# Altium footprint library LED_3MM_BICOLOR_RT_123.PcbLib: 1 footprints
Each footprint in its own frame and in the unit in brackets; x right, y up, seen from the top. Pads: shape width x height; smd on the part's side, far side on the other; paste and mask are expansions set on the pad; w line width, h text height; cw(c..) or ccw(c..) is an arc to the next point about the centre after c.
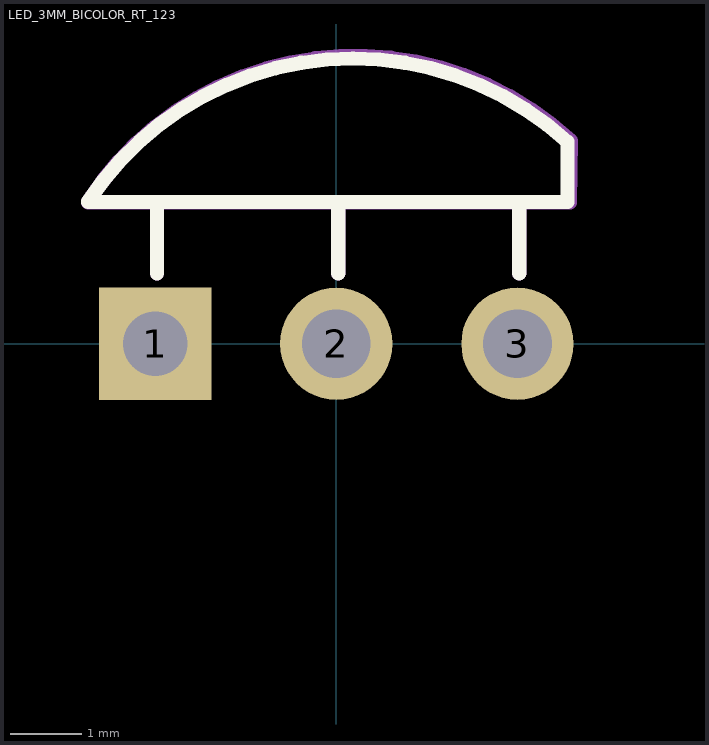
[diagram p0: the footprint, top view; thin cyan lines are the x and y axes]

## LED_3MM_BICOLOR_RT_123 [mil] "Bi-color LED right-angle.  Pin configuration 123"
pads (3):
  rect 62x62 hole 35.4: 1(-100,0)
  round 62 hole 38: 2(0,0) 3(100,0)
Top Overlay:
  lines w7.87: -137,78.37 127.62,78.37 127.62,111.69 ; -137,78.63 cw(c9.27,-17.43) 127.39,111.69 ; -99,39 -99,78.37 ; 1,39 1,78.37 ; 101,39 101,78.37
Mechanical 1:
  lines w7.87: -137,77.97 129,77.97 129.4,112.19 ccw(c10.23,-15.96) -137,78.63 ; -99,39 -99,78.37 ; 1,39 1,78.37 ; 101,39 101,78.37